# EAGLE library part JS202011SCQN (library switch)
DPDT Switch JS202011SCQN
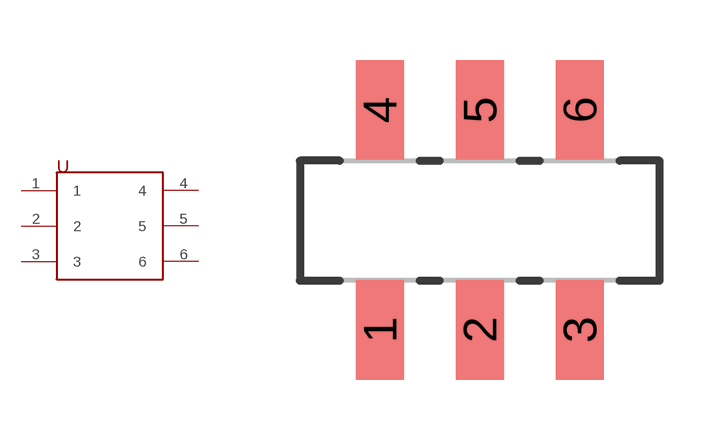
[diagram p0: symbol with the pads of JS202011SCQN; footprint JS202011SCQN]

Designator prefix -

## JS202011SCQN  [JS202011SCQN]
1  1
2  2
3  3
4  4
5  5
6  6

## Footprint JS202011SCQN (pad centres in mm)
smd 1.2 x 2.5: 1 -2.5,-2.73; 2 0,-2.73; 3 2.5,-2.73; 4 -2.5,2.77; 5 0,2.77; 6 2.5,2.77